# Altium footprint library TEENSY_COMPONENTS_FOOTPRINTS.PcbLib: 22 footprints (part 2 of 2)
Each footprint in its own frame and in the unit in brackets; x right, y up, seen from the top. Pads: shape width x height; smd on the part's side, far side on the other; paste and mask are expansions set on the pad; w line width, h text height; cw(c..) or ccw(c..) is an arc to the next point about the centre after c.
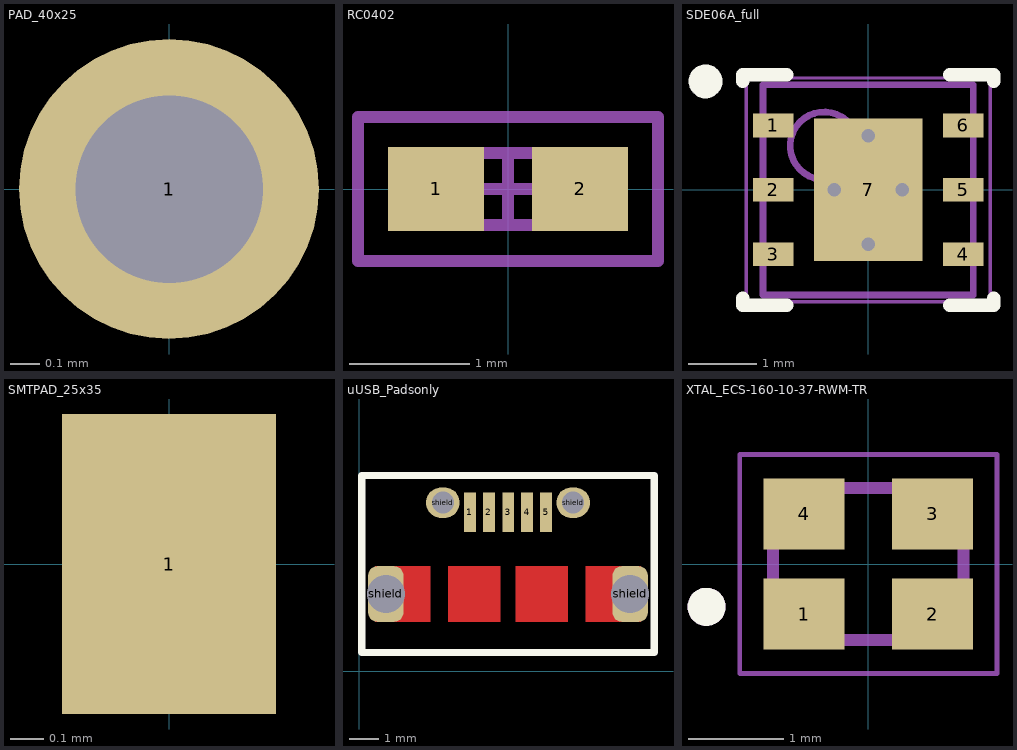
[diagram p1: the footprints below, top view; thin cyan lines are the x and y axes]

## PAD_40x25 [mil] "Single through-hole solder pad"
height 35.43
pads (1):
  round 40 hole 25: 1(0,0)

## RC0402 [mm] "Chip Resistor, Body 1.1x0.5mm, IPC Medium Density"
height 0.4
pads (2):
  rect 0.8x0.7 smd: 1(-0.6,0) 2(0.6,0)
Mechanical 13:
  lines w0.1: -0.55,-0.3 0.55,-0.3 0.55,0.3 -0.55,0.3 -0.55,-0.3
Mechanical 15:
  lines w0.1: -0.3,0 0.3,0 ; 0,-0.3 0,0.3 ; -1.25,-0.6 1.25,-0.6 1.25,0.6 -1.25,0.6 -1.25,-0.6
3D body: height 0.4, standoff 0, extent -0.55,-0.3 0.55,0.3

## SDE06A_full [mm] "SON, 6-Leads, Body 3x3 mm, Pitch 0.95mm, NSC Recommended"
height 0.8
pads (7):
  rect 0.6x0.35 smd paste-0.175 mask+0.051: 1(-1.4,0.95) 2(-1.4,0) 3(-1.4,-0.95) 4(1.4,-0.95) 5(1.4,0) 6(1.4,0.95)
  rect 1.6x2.1 smd paste-0.8 mask+0.051: 7(0,0)
via -0.5,0 diameter 0.5 hole 0.2
via 0,0.8 diameter 0.5 hole 0.2
via 0.5,0 diameter 0.5 hole 0.2
via 0,-0.8 diameter 0.5 hole 0.2
Top Overlay:
  circle w0.25: c-2.4,1.6 r0.125
  lines w0.2: -1.85,-1.6 -1.85,-1.7 -1.2,-1.7 ; -1.85,1.6 -1.85,1.7 -1.2,1.7 ; 1.2,-1.7 1.85,-1.7 1.85,-1.6 ; 1.2,1.7 1.85,1.7 1.85,1.6
Top Paste:
  rectangle: -1.9,0.775 -1.2,1.125
  rectangle: -1.9,-0.175 -1.2,0.175
  rectangle: -1.9,-1.125 -1.2,-0.775
  region: 1.9,-0.775 1.2,-0.775 1.2,-1.125 1.9,-1.125
  region: 1.9,0.175 1.2,0.175 1.2,-0.175 1.9,-0.175
  region: 1.9,1.125 1.2,1.125 1.2,0.775 1.9,0.775
  rectangle: -0.76,-1 0.76,1
Mechanical 13:
  circle w0.1: c-0.65,0.65 r0.5
  lines w0.1: -1.55,-1.55 -1.55,1.55 1.55,1.55 1.55,-1.55 -1.55,-1.55
Mechanical 15:
  lines w0.05: -1.8,-1.65 1.8,-1.65 1.8,1.65 -1.8,1.65 -1.8,-1.65
  lines w0.1: -0.5,0 0.5,0 ; 0,-0.5 0,0.5
3D body: height 0.8, standoff 0, extent -1.55,-1.55 1.55,1.55

## SMTPAD_25x35 [mil]
height 35.43
pads (1):
  rect 25x35 smd: 1(0,0)

## uUSB_Padsonly [mm] "MicroUSB Connection - through hole pads only"
pads (9):
  rect 0.4x1.35 smd paste+0 mask+0.102: 1(3.78,5.421) 2(4.43,5.421) 3(5.087,5.421) 4(5.73,5.421) 5(6.38,5.421)
  rrect50% 1.2x1.9 hole 1.3: shield(0.905,2.635) shield(9.255,2.635)
  rrect100% 1.15x1.05 hole 0.75 paste+0: shield(2.855,5.755)
  rrect100% 1.15x1.05 hole 0.75: shield(7.305,5.755)
Top Layer:
  region: 9.63,3.585 7.73,3.585 7.73,1.685 9.63,1.685
  rectangle: 0.53,1.685 2.43,3.585
  rectangle: 3.03,1.685 4.83,3.585
  rectangle: 5.33,1.685 7.13,3.585
Top Overlay:
  lines w0.254: 0.08,0.635 0.08,6.684 9.906,6.684 10.08,6.684 10.08,0.635 0.08,0.635
3D body: height 3, standoff 0, extent 1.333,0 8.826,5.588

## XTAL_ECS-160-10-37-RWM-TR [mm]
pads (4):
  rect 0.85x0.75 smd: 1(-0.675,-0.525) 2(0.675,-0.525) 3(0.675,0.525) 4(-0.675,0.525)
Top Overlay:
  circle w0.2: c-1.7,-0.45 r0.1
Mechanical 13:
  circle w0.2: c-1.7,-0.45 r0.1
  circle w0.2: c-1.7,-0.45 r0.1
  lines w0.127: -1,-0.8 -1,0.8 ; -1,-0.8 1,-0.8 ; -1,-0.8 -1,0.8 ; -1,-0.8 1,-0.8 ; -1,0.8 1,0.8 ; -1,0.8 1,0.8 ; 1,-0.8 1,0.8 ; 1,-0.8 1,0.8
Mechanical 15:
  lines w0.05: -1.35,-1.15 -1.35,1.15 1.35,1.15 1.35,-1.15 -1.35,-1.15
3D body "ECS-160-10-37-RWM-TR--3DModel-STEP-40055.STEP": height 0.55, standoff 0, extent -0.975,-0.8 1.025,0.8